# Altium schematic symbol library QUAN.SchLib: 229 symbols (part 2 of 2)
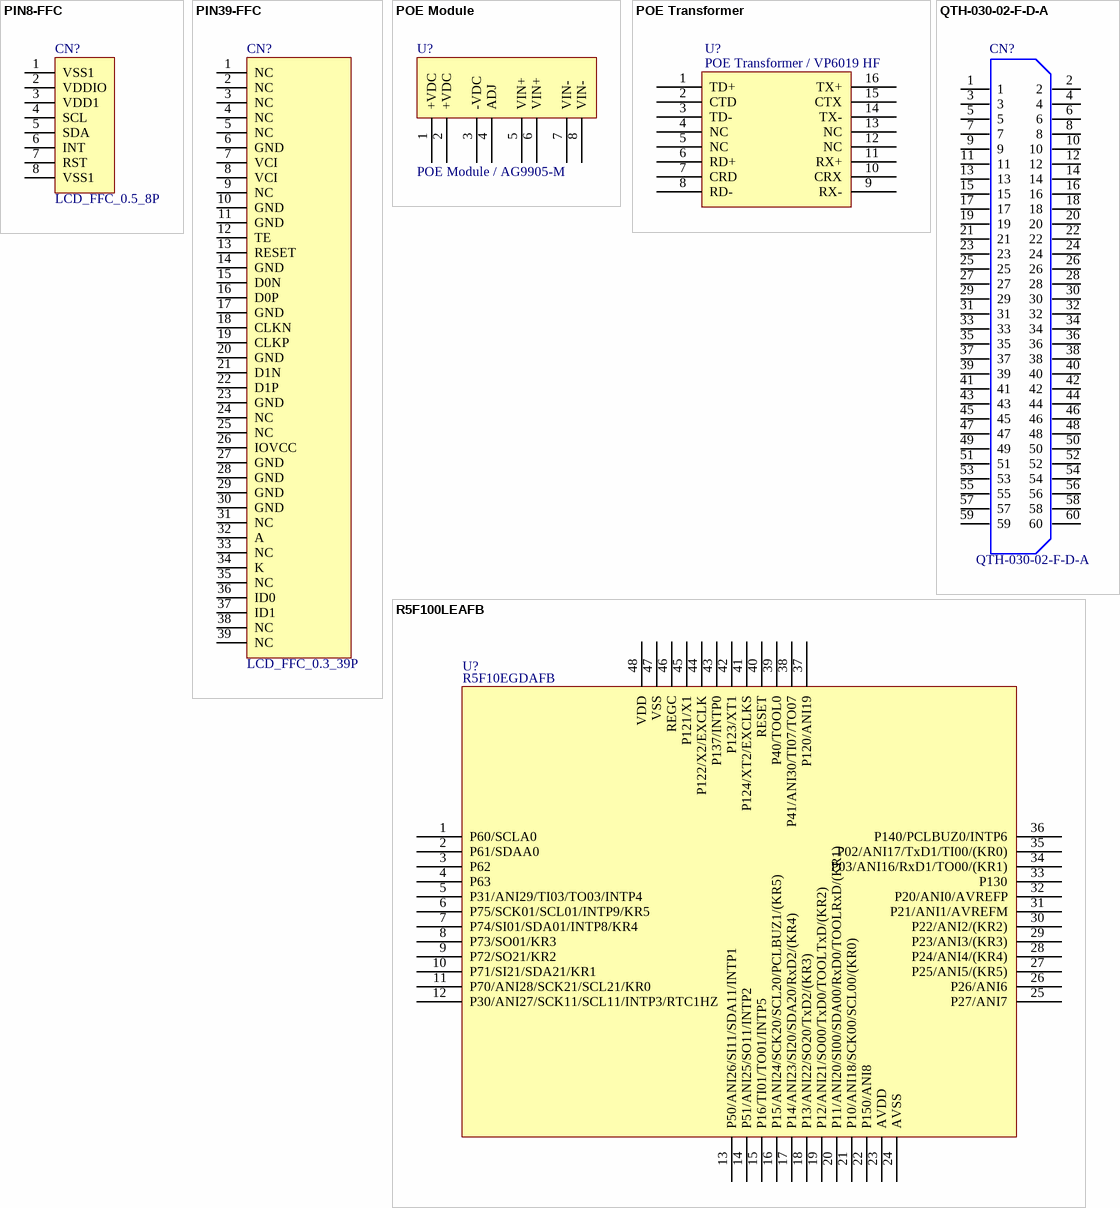
[diagram p10: symbols PIN8-FFC to R5F100LEAFB]

## R5F100LEAFB
designator U?, comment R5F10EGDAFB
footprint LQFP48_7X7_0.5mm
pins: 1 P60/SCLA0, 2 P61/SDAA0, 3 P62, 4 P63, 5 P31/ANI29/TI03/TO03/INTP4, 6 P75/SCK01/SCL01/INTP9/KR5, 7 P74/SI01/SDA01/INTP8/KR4, 8 P73/SO01/KR3, 9 P72/SO21/KR2, 10 P71/SI21/SDA21/KR1, 11 P70/ANI28/SCK21/SCL21/KR0, 12 P30/ANI27/SCK11/SCL11/INTP3/RTC1HZ, 13 P50/ANI26/SI11/SDA11/INTP1, 14 P51/ANI25/SO11/INTP2, 15 P16/TI01/TO01/INTP5, 16 P15/ANI24/SCK20/SCL20/PCLBUZ1/(KR5), 17 P14/ANI23/SI20/SDA20/RxD2/(KR4), 18 P13/ANI22/SO20/TxD2/(KR3), 19 P12/ANI21/SO00/TxD0/TOOLTxD/(KR2), 20 P11/ANI20/SI00/SDA00/RxD0/TOOLRxD/(KR1), 21 P10/ANI18/SCK00/SCL00/(KR0), 22 P150/ANI8, 23 AVDD, 24 AVSS, 25 P27/ANI7, 26 P26/ANI6, 27 P25/ANI5/(KR5), 28 P24/ANI4/(KR4), 29 P23/ANI3/(KR3), 30 P22/ANI2/(KR2), 31 P21/ANI1/AVREFM, 32 P20/ANI0/AVREFP, 33 P130, 34 P03/ANI16/RxD1/TO00/(KR1), 35 P02/ANI17/TxD1/TI00/(KR0), 36 P140/PCLBUZ0/INTP6, 37 P120/ANI19, 38 P41/ANI30/TI07/TO07, 39 P40/TOOL0, 40 RESET, 41 P124/XT2/EXCLKS, 42 P123/XT1, 43 P137/INTP0, 44 P122/X2/EXCLK, 45 P121/X1, 46 REGC, 47 VSS, 48 VDD

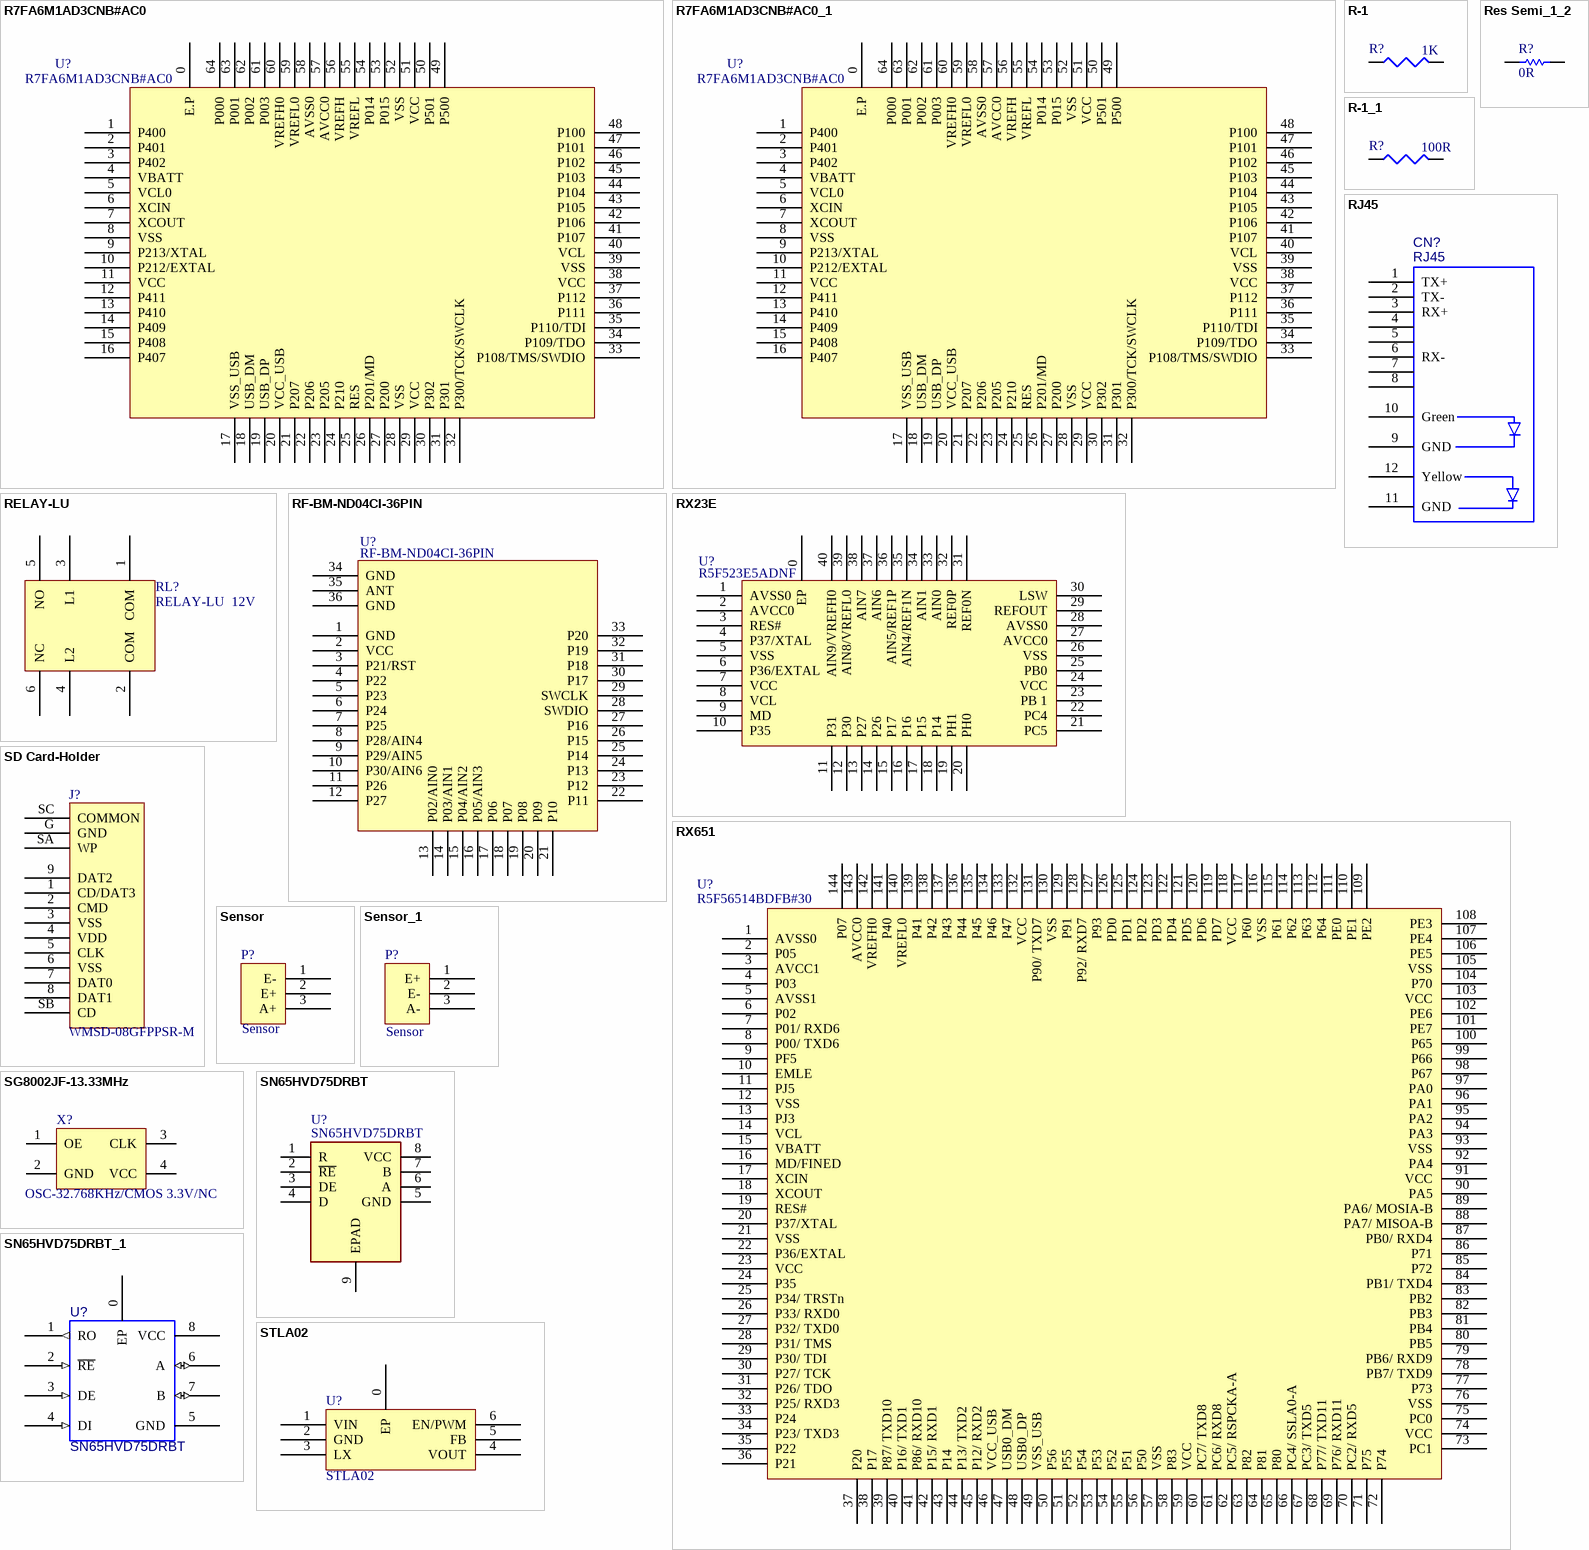
[diagram p6: symbols R7FA6M1AD3CNB#AC0 to STLA02]

## R7FA6M1AD3CNB#AC0
designator U?
MCU; Value: R7FA6M1AD3CNB#AC0
footprint IC128
footprint QFP100
footprint QFN64-0.4mm-8X8
pins: 0 E.P, 1 P400, 2 P401, 3 P402, 4 VBATT, 5 VCL0, 6 XCIN, 7 XCOUT, 8 VSS, 9 P213/XTAL, 10 P212/EXTAL, 11 VCC, 12 P411, 13 P410, 14 P409, 15 P408, 16 P407, 17 VSS_USB, 18 USB_DM, 19 USB_DP, 20 VCC_USB, 21 P207, 22 P206, 23 P205, 24 P210, 25 RES, 26 P201/MD, 27 P200, 28 VSS, 29 VCC, 30 P302, 31 P301, 32 P300/TCK/SWCLK, 33 P108/TMS/SWDIO, 34 P109/TDO, 35 P110/TDI, 36 P111, 37 P112, 38 VCC, 39 VSS, 40 VCL, 41 P107, 42 P106, 43 P105, 44 P104, 45 P103, 46 P102, 47 P101, 48 P100, 49 P500, 50 P501, 51 VCC, 52 VSS, 53 P015, 54 P014, 55 VREFL, 56 VREFH, 57 AVCC0, 58 AVSS0, 59 VREFL0, 60 VREFH0, 61 P003, 62 P002, 63 P001, 64 P000
2 alternate drawings of the same symbol

## R7FA6M1AD3CNB#AC0_1
designator U?, comment R7FA6M1AD3CNB#AC0
MCU; Value: R7FA6M1AD3CNB#AC0
footprint IC128
footprint QFP100
footprint QFN64-0.4mm-8X8
pins: 0 E.P, 1 P400, 2 P401, 3 P402, 4 VBATT, 5 VCL0, 6 XCIN, 7 XCOUT, 8 VSS, 9 P213/XTAL, 10 P212/EXTAL, 11 VCC, 12 P411, 13 P410, 14 P409, 15 P408, 16 P407, 17 VSS_USB, 18 USB_DM, 19 USB_DP, 20 VCC_USB, 21 P207, 22 P206, 23 P205, 24 P210, 25 RES, 26 P201/MD, 27 P200, 28 VSS, 29 VCC, 30 P302, 31 P301, 32 P300/TCK/SWCLK, 33 P108/TMS/SWDIO, 34 P109/TDO, 35 P110/TDI, 36 P111, 37 P112, 38 VCC, 39 VSS, 40 VCL, 41 P107, 42 P106, 43 P105, 44 P104, 45 P103, 46 P102, 47 P101, 48 P100, 49 P500, 50 P501, 51 VCC, 52 VSS, 53 P015, 54 P014, 55 VREFL, 56 VREFH, 57 AVCC0, 58 AVSS0, 59 VREFL0, 60 VREFH0, 61 P003, 62 P002, 63 P001, 64 P000
2 alternate drawings of the same symbol

## R-1
designator R?, comment 1K
footprint 0603
footprint 0805
footprint 1206
footprint DLR
footprint 0603
pins: 1, 2
2 alternate drawings of the same symbol

## R-1_1
designator R?, comment 100R
footprint 0402
footprint 0805
footprint 1206
footprint DLR
pins: 1, 2
2 alternate drawings of the same symbol

## RELAY-LU
designator RL?, comment RELAY-LU  12V
value: *
footprint RELAY-LU
pins: 1 COM, 2 COM, 3 L1, 4 L2, 5 NO, 6 NC
2 alternate drawings of the same symbol

## Res Semi_1_2
designator R?, comment 0R
Semiconductor Resistor; Published: 8-Jun-2000; LatestRevisionDate: 17-Jul-2002; LatestRevisionNote: Re-released for DXP Platform.; PackageReference: AXIAL-0.5; Publisher: Altium Limited; Value: 0R
footprint AXIAL-0.5
footprint 1005[0402]
footprint 1608[0603]
footprint 2012[0805]
footprint 0603
footprint 0402
pins: 1, 2
2 alternate drawings of the same symbol

## RF-BM-ND04CI-36PIN
designator U?
footprint RF-BM-ND04CI-36PIN
pins: 1 GND, 2 VCC, 3 P21/RST, 4 P22, 5 P23, 6 P24, 7 P25, 8 P28/AIN4, 9 P29/AIN5, 10 P30/AIN6, 11 P26, 12 P27, 13 P02/AIN0, 14 P03/AIN1, 15 P04/AIN2, 16 P05/AIN3, 17 P06, 18 P07, 19 P08, 20 P09, 21 P10, 22 P11, 23 P12, 24 P13, 25 P14, 26 P15, 27 P16, 28 SWDIO, 29 SWCLK, 30 P17, 31 P18, 32 P19, 33 P20, 34 GND, 35 ANT, 36 GND

## RJ45
designator CN?
Right: 162; Bottom: 258
footprint WRJ45-ROUT-SMT-T
pins: 1 TX+, 2 TX-, 3 RX+, 4, 5, 6 RX-, 7, 8, 9 GND, 10 Green, 11 GND, 12 Yellow
2 alternate drawings of the same symbol

## RX23E
designator U?, comment R5F523E5ADNF
footprint IC128
footprint QFP100
footprint QFN-40-0.5MM-6X6
pins: 0 EP, 1 AVSS0, 2 AVCC0, 3 RES#, 4 P37/XTAL, 5 VSS, 6 P36/EXTAL, 7 VCC, 8 VCL, 9 MD, 10 P35, 11 P31, 12 P30, 13 P27, 14 P26, 15 P17, 16 P16, 17 P15, 18 P14, 19 PH1, 20 PH0, 21 PC5, 22 PC4, 23 PB 1, 24 VCC, 25 PB0, 26 VSS, 27 AVCC0, 28 AVSS0, 29 REFOUT, 30 LSW, 31 REF0N, 32 REF0P, 33 AIN0, 34 AIN1, 35 AIN4/REF1N, 36 AIN5/REF1P, 37 AIN6, 38 AIN7, 39 AIN8/VREFL0, 40 AIN9/VREFH0
2 alternate drawings of the same symbol

## RX651
designator U?, comment R5F56514BDFB#30
footprint LQFP144-20x20-0.5mm
pins: 1 AVSS0, 2 P05, 3 AVCC1, 4 P03, 5 AVSS1, 6 P02, 7 P01/ RXD6, 8 P00/ TXD6, 9 PF5, 10 EMLE, 11 PJ5, 12 VSS, 13 PJ3, 14 VCL, 15 VBATT, 16 MD/FINED, 17 XCIN, 18 XCOUT, 19 RES#, 20 P37/XTAL, 21 VSS, 22 P36/EXTAL, 23 VCC, 24 P35, 25 P34/ TRSTn, 26 P33/ RXD0, 27 P32/ TXD0, 28 P31/ TMS, 29 P30/ TDI, 30 P27/ TCK, 31 P26/ TDO, 32 P25/ RXD3, 33 P24, 34 P23/ TXD3, 35 P22, 36 P21, 37 P20, 38 P17, 39 P87/ TXD10, 40 P16/ TXD1, 41 P86/ RXD10, 42 P15/ RXD1, 43 P14, 44 P13/ TXD2, 45 P12/ RXD2, 46 VCC_USB, 47 USB0_DM, 48 USB0_DP, 49 VSS_USB, 50 P56, 51 P55, 52 P54, 53 P53, 54 P52, 55 P51, 56 P50, 57 VSS, 58 P83, 59 VCC, 60 PC7/ TXD8, 61 PC6/ RXD8, 62 PC5/ RSPCKA-A, 63 P82, 64 P81, 65 P80, 66 PC4/ SSLA0-A, 67 PC3/ TXD5, 68 P77/ TXD11, 69 P76/ RXD11, 70 PC2/ RXD5, 71 P75, 72 P74, 73 PC1, 74 VCC, 75 PC0, 76 VSS, 77 P73, 78 PB7/ TXD9, 79 PB6/ RXD9, 80 PB5, 81 PB4, 82 PB3, 83 PB2, 84 PB1/ TXD4, 85 P72, 86 P71, 87 PB0/ RXD4, 88 PA7/ MISOA-B, 89 PA6/ MOSIA-B, 90 PA5, 91 VCC, 92 PA4, 93 VSS, 94 PA3, 95 PA2, 96 PA1, 97 PA0, 98 P67, 99 P66, 100 P65, 101 PE7, 102 PE6, 103 VCC, 104 P70, 105 VSS, 106 PE5, 107 PE4, 108 PE3, 109 PE2, 110 PE1, 111 PE0, 112 P64, 113 P63, 114 P62, 115 P61, 116 VSS, 117 P60, 118 VCC, 119 PD7, 120 PD6, 121 PD5, 122 PD4, 123 PD3, 124 PD2, 125 PD1, 126 PD0, 127 P93, 128 P92/ RXD7, 129 P91, 130 VSS, 131 P90/ TXD7, 132 VCC, 133 P47, 134 P46, 135 P45, 136 P44, 137 P43, 138 P42, 139 P41, 140 VREFL0, 141 P40, 142 VREFH0, 143 AVCC0, 144 P07

## SD Card-Holder
designator J?, comment WMSD-08GFPPSR-M
footprint SD Holder-Big
pins: 1 CD/DAT3, 2 CMD, 3 VSS, 4 VDD, 5 CLK, 6 VSS, 7 DAT0, 8 DAT1, 9 DAT2, G GND, SA WP, SB CD, SC COMMON

## Sensor
designator P?
footprint 6PIN-200
footprint WHITEWAFER3-200L
pins: 1 E-, 2 E+, 3 A+
2 alternate drawings of the same symbol

## Sensor_1
designator P?, comment Sensor
footprint WHITEWAFER3-200L
pins: 1 E+, 2 E-, 3 A-
2 alternate drawings of the same symbol

## SG8002JF-13.33MHz
designator X?, comment OSC-32.768KHz/CMOS 3.3V/NC
footprint Osc-SMD-3.2X2.5--
pins: 1 OE, 2 GND, 3 CLK, 4 VCC

## SN65HVD75DRBT
designator U?
RS-485 Transceivers; Manufacturer_Name: Texas Instruments; Datasheet Link: http://www.ti.com/lit/ds/symlink/sn65hvd75.pdf; Height: 1mm; Manufacturer_Part_Number: SN65HVD75DRBT
footprint SON65P300X300X100-9N-D
pins: 1 R, 2 ~{RE}, 3 DE, 4 D, 5 GND, 6 A, 7 B, 8 VCC, 9 EPAD

## SN65HVD75DRBT_1
designator U?, comment SN65HVD75DRBT
footprint SOIC
footprint SON8_0-65P_3X3MM_1H
pins: 0 EP (power), 1 RO (out), 2 ~{RE} (in), 3 DE (in), 4 DI (in), 5 GND (power), 6 A (io), 7 B (io), 8 VCC (power)
2 alternate drawings of the same symbol

## STLA02
designator U?
Value: STLA02
footprint DFN-6P-2X2mm
pins: 0 EP, 1 VIN, 2 GND, 3 LX, 4 VOUT, 5 FB, 6 EN/PWM
2 alternate drawings of the same symbol

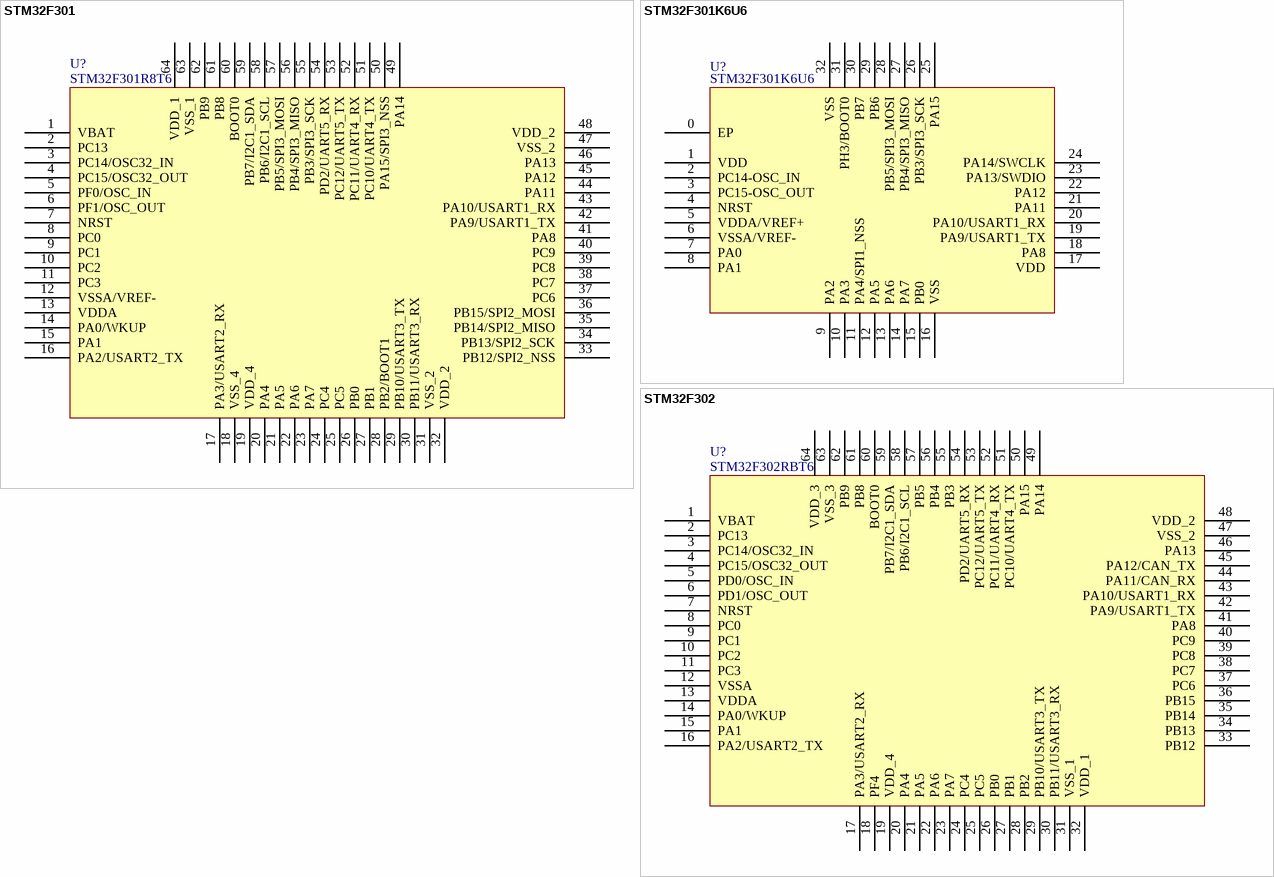
[diagram p7: symbols STM32F301 to STM32F302]

## STM32F301
designator U?, comment STM32F301R8T6
footprint IC128
footprint QFP100
footprint LQFP64-10x10_0.5mm
pins: 1 VBAT, 2 PC13, 3 PC14/OSC32_IN, 4 PC15/OSC32_OUT, 5 PF0/OSC_IN, 6 PF1/OSC_OUT, 7 NRST, 8 PC0, 9 PC1, 10 PC2, 11 PC3, 12 VSSA/VREF-, 13 VDDA, 14 PA0/WKUP, 15 PA1, 16 PA2/USART2_TX, 17 PA3/USART2_RX, 18 VSS_4, 19 VDD_4, 20 PA4, 21 PA5, 22 PA6, 23 PA7, 24 PC4, 25 PC5, 26 PB0, 27 PB1, 28 PB2/BOOT1, 29 PB10/USART3_TX, 30 PB11/USART3_RX, 31 VSS_2, 32 VDD_2, 33 PB12/SPI2_NSS, 34 PB13/SPI2_SCK, 35 PB14/SPI2_MISO, 36 PB15/SPI2_MOSI, 37 PC6, 38 PC7, 39 PC8, 40 PC9, 41 PA8, 42 PA9/USART1_TX, 43 PA10/USART1_RX, 44 PA11, 45 PA12, 46 PA13, 47 VSS_2, 48 VDD_2, 49 PA14, 50 PA15/SPI3_NSS, 51 PC10/UART4_TX, 52 PC11/UART4_RX, 53 PC12/UART5_TX, 54 PD2/UART5_RX, 55 PB3/SPI3_SCK, 56 PB4/SPI3_MISO, 57 PB5/SPI3_MOSI, 58 PB6/I2C1_SCL, 59 PB7/I2C1_SDA, 60 BOOT0, 61 PB8, 62 PB9, 63 VSS_1, 64 VDD_1
2 alternate drawings of the same symbol

## STM32F301K6U6
designator U?
footprint QFN-32-0.5MM-5X5_STM32L432-new
pins: 0 EP, 1 VDD, 2 PC14-OSC_IN, 3 PC15-OSC_OUT, 4 NRST, 5 VDDA/VREF+, 6 VSSA/VREF-, 7 PA0, 8 PA1, 9 PA2, 10 PA3, 11 PA4/SPI1_NSS, 12 PA5, 13 PA6, 14 PA7, 15 PB0, 16 VSS, 17 VDD, 18 PA8, 19 PA9/USART1_TX, 20 PA10/USART1_RX, 21 PA11, 22 PA12, 23 PA13/SWDIO, 24 PA14/SWCLK, 25 PA15, 26 PB3/SPI3_SCK, 27 PB4/SPI3_MISO, 28 PB5/SPI3_MOSI, 29 PB6, 30 PB7, 31 PH3/BOOT0, 32 VSS

## STM32F302
designator U?, comment STM32F302RBT6
footprint IC128
footprint QFP100
footprint LQFP64-10x10_0.5mm
pins: 1 VBAT, 2 PC13, 3 PC14/OSC32_IN, 4 PC15/OSC32_OUT, 5 PD0/OSC_IN, 6 PD1/OSC_OUT, 7 NRST, 8 PC0, 9 PC1, 10 PC2, 11 PC3, 12 VSSA, 13 VDDA, 14 PA0/WKUP, 15 PA1, 16 PA2/USART2_TX, 17 PA3/USART2_RX, 18 PF4, 19 VDD_4, 20 PA4, 21 PA5, 22 PA6, 23 PA7, 24 PC4, 25 PC5, 26 PB0, 27 PB1, 28 PB2, 29 PB10/USART3_TX, 30 PB11/USART3_RX, 31 VSS_1, 32 VDD_1, 33 PB12, 34 PB13, 35 PB14, 36 PB15, 37 PC6, 38 PC7, 39 PC8, 40 PC9, 41 PA8, 42 PA9/USART1_TX, 43 PA10/USART1_RX, 44 PA11/CAN_RX, 45 PA12/CAN_TX, 46 PA13, 47 VSS_2, 48 VDD_2, 49 PA14, 50 PA15, 51 PC10/UART4_TX, 52 PC11/UART4_RX, 53 PC12/UART5_TX, 54 PD2/UART5_RX, 55 PB3, 56 PB4, 57 PB5, 58 PB6/I2C1_SCL, 59 PB7/I2C1_SDA, 60 BOOT0, 61 PB8, 62 PB9, 63 VSS_3, 64 VDD_3
2 alternate drawings of the same symbol

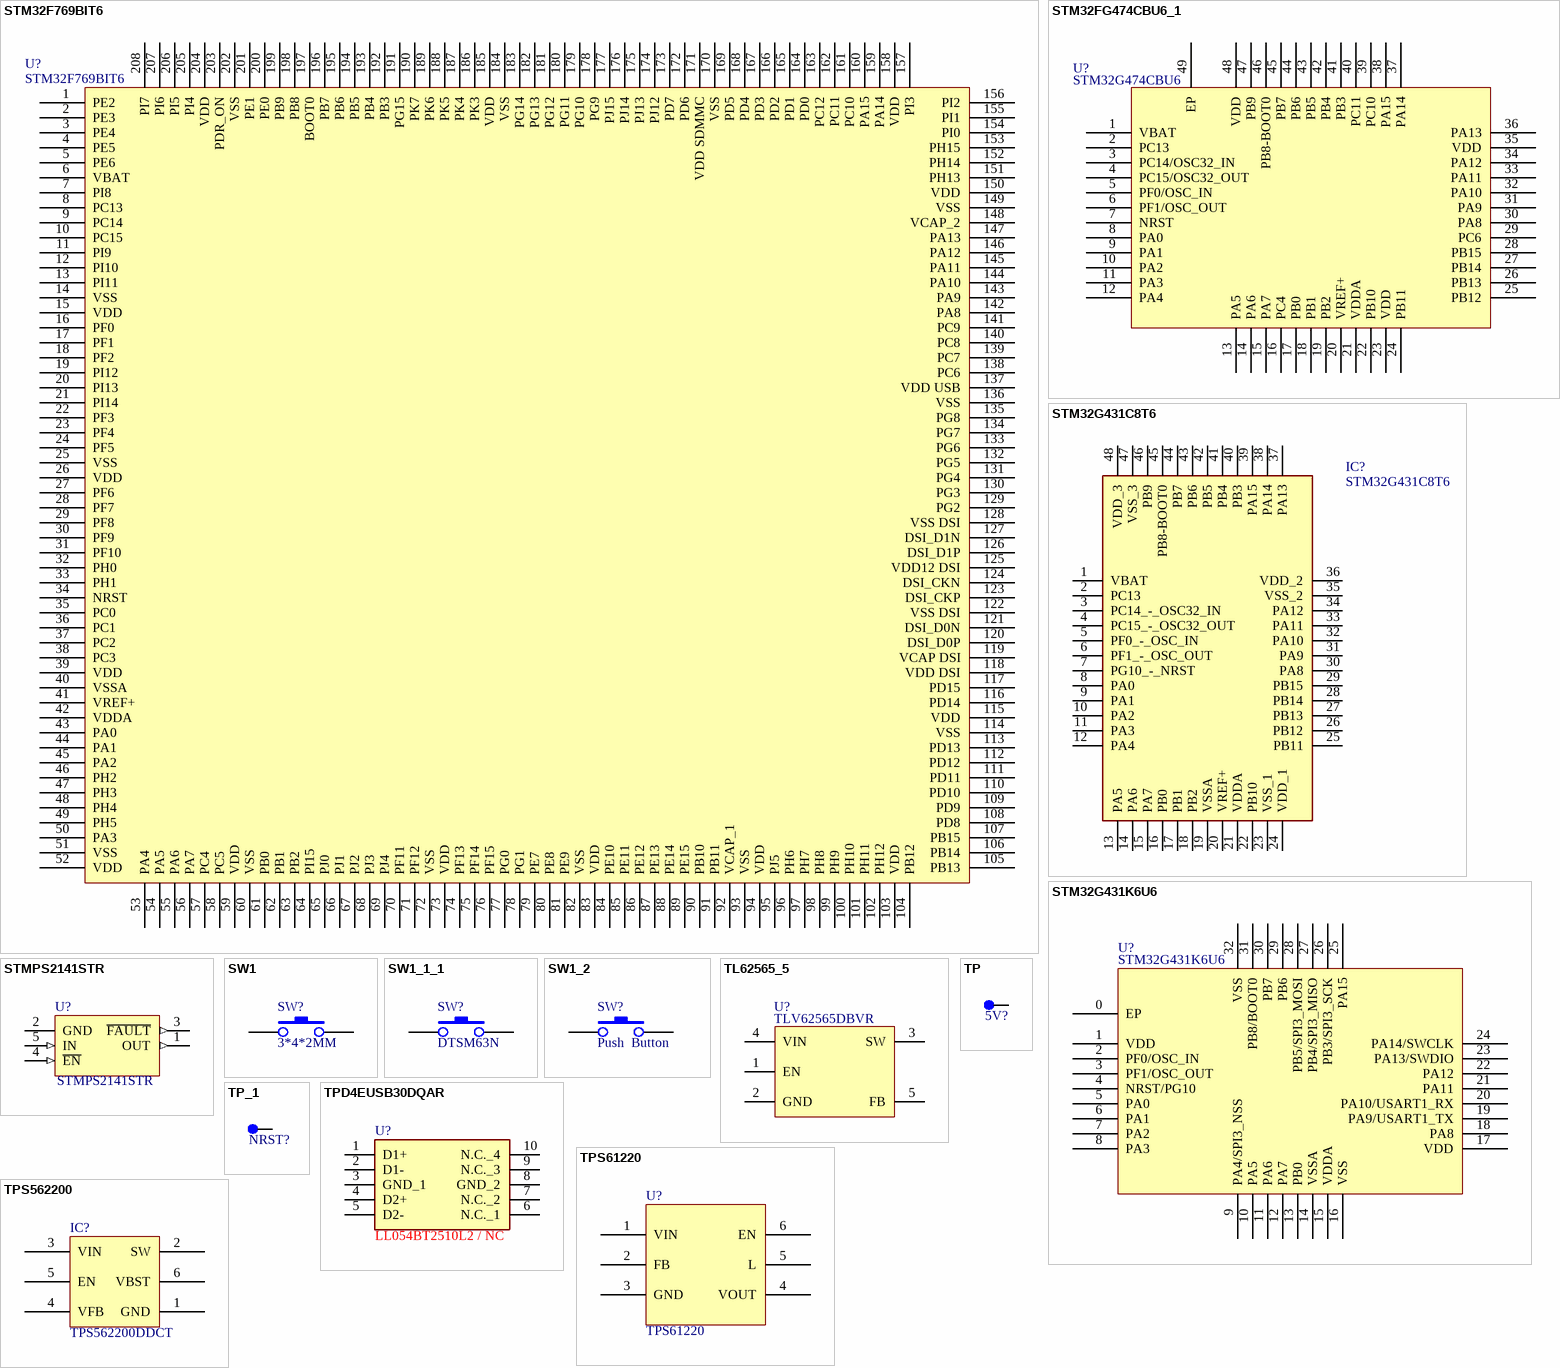
[diagram p8: symbols STM32F769BIT6 to TPS562200]

## STM32F769BIT6
designator U?
MCU; Value: STM32F769BIT6
footprint LQFP208-28MM-0.5mm
pins: 1 PE2, 2 PE3, 3 PE4, 4 PE5, 5 PE6, 6 VBAT, 7 PI8, 8 PC13, 9 PC14, 10 PC15, 11 PI9, 12 PI10, 13 PI11, 14 VSS, 15 VDD, 16 PF0, 17 PF1, 18 PF2, 19 PI12, 20 PI13, 21 PI14, 22 PF3, 23 PF4, 24 PF5, 25 VSS, 26 VDD, 27 PF6, 28 PF7, 29 PF8, 30 PF9, 31 PF10, 32 PH0, 33 PH1, 34 NRST, 35 PC0, 36 PC1, 37 PC2, 38 PC3, 39 VDD, 40 VSSA, 41 VREF+, 42 VDDA, 43 PA0, 44 PA1, 45 PA2, 46 PH2, 47 PH3, 48 PH4, 49 PH5, 50 PA3, 51 VSS, 52 VDD, 53 PA4, 54 PA5, 55 PA6, 56 PA7, 57 PC4, 58 PC5, 59 VDD, 60 VSS, 61 PB0, 62 PB1, 63 PB2, 64 PI15, 65 PJ0, 66 PJ1, 67 PJ2, 68 PJ3, 69 PJ4, 70 PF11, 71 PF12, 72 VSS, 73 VDD, 74 PF13, 75 PF14, 76 PF15, 77 PG0, 78 PG1, 79 PE7, 80 PE8, 81 PE9, 82 VSS, 83 VDD, 84 PE10, 85 PE11, 86 PE12, 87 PE13, 88 PE14, 89 PE15, 90 PB10, 91 PB11, 92 VCAP_1, 93 VSS, 94 VDD, 95 PJ5, 96 PH6, 97 PH7, 98 PH8, 99 PH9, 100 PH10, 101 PH11, 102 PH12, 103 VDD, 104 PB12, 105 PB13, 106 PB14, 107 PB15, 108 PD8, 109 PD9, 110 PD10, 111 PD11, 112 PD12, 113 PD13, 114 VSS, 115 VDD, 116 PD14, 117 PD15, 118 VDD DSI, 119 VCAP DSI, 120 DSI_D0P, 121 DSI_D0N, 122 VSS DSI, 123 DSI_CKP, 124 DSI_CKN, 125 VDD12 DSI, 126 DSI_D1P, 127 DSI_D1N, 128 VSS DSI, 129 PG2, 130 PG3, 131 PG4, 132 PG5, 133 PG6, 134 PG7, 135 PG8, 136 VSS, 137 VDD USB, 138 PC6, 139 PC7, 140 PC8, 141 PC9, 142 PA8, 143 PA9, 144 PA10, 145 PA11, 146 PA12, 147 PA13, 148 VCAP_2, 149 VSS, 150 VDD, 151 PH13, 152 PH14, 153 PH15, 154 PI0, 155 PI1, 156 PI2, 157 PI3, 158 VDD, 159 PA14, 160 PA15, 161 PC10, 162 PC11, 163 PC12, 164 PD0, 165 PD1, 166 PD2, 167 PD3, 168 PD4, 169 PD5, 170 VSS, 171 VDD SDMMC, 172 PD6, 173 PD7, 174 PJ12, 175 PJ13, 176 PJ14, 177 PJ15, 178 PG9, 179 PG10, 180 PG11, 181 PG12, 182 PG13, 183 PG14, 184 VSS, 185 VDD, 186 PK3, 187 PK4, 188 PK5, 189 PK6, 190 PK7, 191 PG15, 192 PB3, 193 PB4, 194 PB5, 195 PB6, 196 PB7, 197 BOOT0, 198 PB8, 199 PB9, 200 PE0, 201 PE1, 202 VSS, 203 PDR_ON, 204 VDD, 205 PI4, 206 PI5, 207 PI6, 208 PI7

## STM32FG474CBU6_1
designator U?, comment STM32G474CBU6
MCU; Value: STM32G474CBU6
footprint IC128
footprint QFP100
footprint UFQFPN-48-0.5mm-7x7
pins: 1 VBAT, 2 PC13, 3 PC14/OSC32_IN, 4 PC15/OSC32_OUT, 5 PF0/OSC_IN, 6 PF1/OSC_OUT, 7 NRST, 8 PA0, 9 PA1, 10 PA2, 11 PA3, 12 PA4, 13 PA5, 14 PA6, 15 PA7, 16 PC4, 17 PB0, 18 PB1, 19 PB2, 20 VREF+, 21 VDDA, 22 PB10, 23 VDD, 24 PB11, 25 PB12, 26 PB13, 27 PB14, 28 PB15, 29 PC6, 30 PA8, 31 PA9, 32 PA10, 33 PA11, 34 PA12, 35 VDD, 36 PA13, 37 PA14, 38 PA15, 39 PC10, 40 PC11, 41 PB3, 42 PB4, 43 PB5, 44 PB6, 45 PB7, 46 PB8-BOOT0, 47 PB9, 48 VDD, 49 EP
2 alternate drawings of the same symbol

## STM32G431C8T6
designator IC?
Integrated Circuit; Manufacturer_Name: STMicroelectronics; Datasheet Link: https://www.arrow.com/en/products/stm32g431c8t6/stmicroelectronics; Height: 1.6mm; Manufacturer_Part_Number: STM32G431C8T6
footprint QFP50P900X900X160-48N
pins: 1 VBAT, 2 PC13, 3 PC14_-_OSC32_IN, 4 PC15_-_OSC32_OUT, 5 PF0_-_OSC_IN, 6 PF1_-_OSC_OUT, 7 PG10_-_NRST, 8 PA0, 9 PA1, 10 PA2, 11 PA3, 12 PA4, 13 PA5, 14 PA6, 15 PA7, 16 PB0, 17 PB1, 18 PB2, 19 VSSA, 20 VREF+, 21 VDDA, 22 PB10, 23 VSS_1, 24 VDD_1, 25 PB11, 26 PB12, 27 PB13, 28 PB14, 29 PB15, 30 PA8, 31 PA9, 32 PA10, 33 PA11, 34 PA12, 35 VSS_2, 36 VDD_2, 37 PA13, 38 PA14, 39 PA15, 40 PB3, 41 PB4, 42 PB5, 43 PB6, 44 PB7, 45 PB8-BOOT0, 46 PB9, 47 VSS_3, 48 VDD_3

## STM32G431K6U6
designator U?
MCU
footprint QFN50P500X500X60-33N
pins: 0 EP, 1 VDD, 2 PF0/OSC_IN, 3 PF1/OSC_OUT, 4 NRST/PG10, 5 PA0, 6 PA1, 7 PA2, 8 PA3, 9 PA4/SPI3_NSS, 10 PA5, 11 PA6, 12 PA7, 13 PB0, 14 VSSA, 15 VDDA, 16 VSS, 17 VDD, 18 PA8, 19 PA9/USART1_TX, 20 PA10/USART1_RX, 21 PA11, 22 PA12, 23 PA13/SWDIO, 24 PA14/SWCLK, 25 PA15, 26 PB3/SPI3_SCK, 27 PB4/SPI3_MISO, 28 PB5/SPI3_MOSI, 29 PB6, 30 PB7, 31 PB8/BOOT0, 32 VSS

## STMPS2141STR
designator U?
Text Field1: 20; Text Field2: 10
footprint SOT-23-5-0.95MM
pins: 1 OUT (out), 2 GND, 3 ~{FAULT} (out), 4 ~{EN} (in), 5 IN (in)

## SW1
designator SW?, comment 3*4*2MM
footprint SWA
footprint IDSW
footprint IDSW2
footprint IDSW-S
footprint SW-AT-1102VT
footprint button-2pin
footprint Button-2pin-3*4*2MM
footprint Button_2pin-3*4*2MM
pins: 1, 2
2 alternate drawings of the same symbol

## SW1_1_1
designator SW?, comment DTSM63N
footprint SWA
footprint IDSW
footprint IDSW2
footprint IDSW-S
footprint SW-AT-1102VT1-new
pins: 0 GND hidden to GND, 1, 2
2 alternate drawings of the same symbol

## SW1_2
designator SW?, comment Push  Button
Push Button; Value: Switch-SMD-6x6mm
footprint SWA
footprint IDSW
footprint IDSW2
footprint IDSW-S
footprint Button_2pin-3*4*2MM
pins: 1, 2
2 alternate drawings of the same symbol

## TL62565_5
designator U?, comment TLV62565DBVR
Value: TLV62565DBVR
footprint SOT-23-5-0.95MM
pins: 1 EN, 2 GND, 3 SW, 4 VIN, 5 FB

## TP
designator 5V?  (value not drawn)
Test point; Value: 3V3
footprint TESTPAD-0.6MM
footprint TESTPAD-0.6MM-1
footprint TESTPAD-0.4MM
footprint TESTPAD-0.4MM-1
footprint MODULE-PAD-0.65X0.4
footprint TESTPAD-1X0.6MM-1
footprint TESTPAD-0.6X0.4MM-1
pins: 1
2 alternate drawings of the same symbol

## TP_1
designator NRST?, comment TP  (value not drawn)
Test point; Value: NRST
footprint TESTPAD-0.6MM
footprint TESTPAD-0.6MM-1
footprint TESTPAD-0.4MM
footprint TESTPAD-0.4MM-1
footprint MODULE-PAD-0.65X0.4
footprint TESTPAD-1X0.6MM-1
footprint TESTPAD-0.6X0.4MM-1
pins: 1
2 alternate drawings of the same symbol

## TPD4EUSB30DQAR
designator U?, comment LL054BT2510L2 / NC
Integrated Circuit
footprint USON10-ESD
pins: 1 D1+, 2 D1-, 3 GND_1, 4 D2+, 5 D2-, 6 N.C._1, 7 N.C._2, 8 GND_2, 9 N.C._3, 10 N.C._4

## TPS61220
designator U?
footprint SOT-23-6
footprint SOT-23-6-0.65MM-1
pins: 1 VIN, 2 FB, 3 GND, 4 VOUT, 5 L, 6 EN
2 alternate drawings of the same symbol

## TPS562200
designator IC?, comment TPS562200DDCT
footprint SOT-23-6-0.95mm
pins: 1 GND, 2 SW, 3 VIN, 4 VFB, 5 EN, 6 VBST

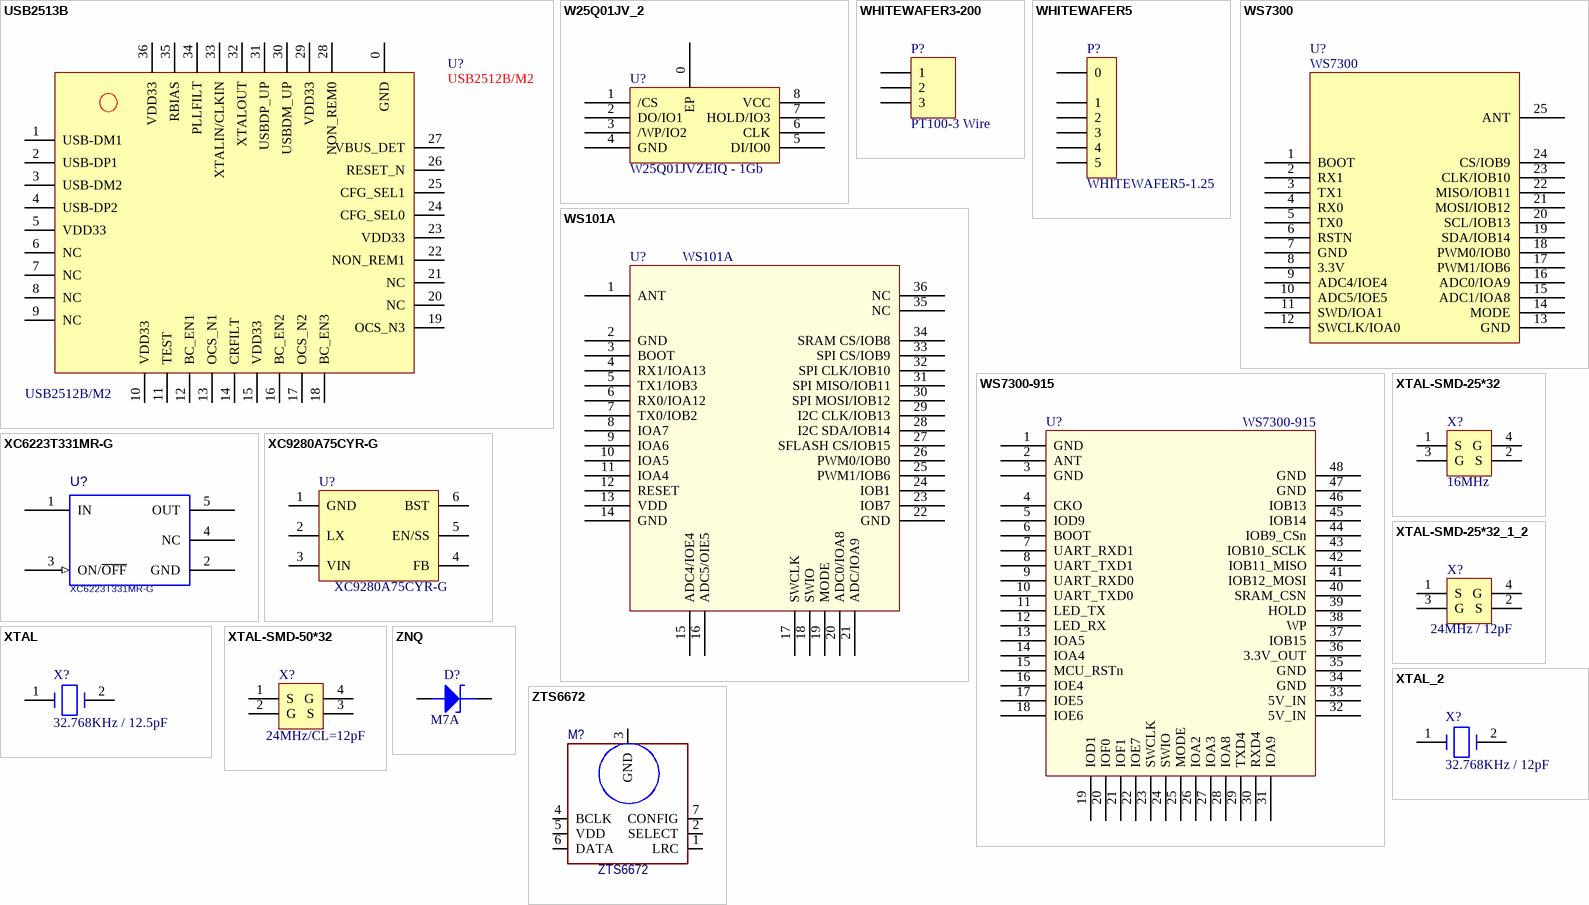
[diagram p9: symbols USB2513B to ZTS6672]

## USB2513B
designator U?, comment USB2512B/M2
USB Hub; Value: USB2512B/M2
footprint QFN-36-0.5MM-6x6
pins: 0 GND, 1 USB-DM1 "GND", 2 USB-DP1 "SCL", 3 USB-DM2 "SDA", 4 USB-DP2 "NC", 5 VDD33 "P1_5", 6 NC "P1_4", 7 NC "P1_3", 8 NC "P1_2", 9 NC "P1_1", 10 VDD33 "DVDD2", 11 TEST, 12 BC_EN1 "P0_7", 13 OCS_N1 "P0_6", 14 CRFILT "P0_5", 15 VDD33 "P0_4", 16 BC_EN2 "P0_3", 17 OCS_N2 "P0_2", 18 BC_EN3 "P0_1", 19 OCS_N3 "AVDD5", 20 NC "XOSC_Q1", 21 NC "AVDD5", 22 NON_REM1 "XOSC_Q1", 23 VDD33 "XOSC_Q2", 24 CFG_SEL0 "AVDD3", 25 CFG_SEL1 "RF_P", 26 RESET_N "RF_N", 27 VBUS_DET "AVDD2", 28 NON_REM0 "AVDD1", 29 VDD33 "AVDD4", 30 USBDM_UP "R_BIAS", 31 USBDP_UP "AVDD6", 32 XTALOUT "P2_4 / OSC32K_Q1", 33 XTALIN/CLKIN "P2_3 / OSC32K_Q2", 34 PLLFILT "P2_2", 35 RBIAS "P2_1", 36 VDD33 "P2_0"

## W25Q01JV_2
designator U?, comment value W25Q01JVZEIQ - 1Gb  (hidden comment: W25Q01JV- 1Gb)
footprint WSON  8X6mm
pins: 0 EP, 1 /CS, 2 DO/IO1, 3 /WP/IO2, 4 GND, 5 DI/IO0, 6 CLK, 7 HOLD/IO3, 8 VCC
2 alternate drawings of the same symbol

## WHITEWAFER3-200
designator P?, comment PT100-3 Wire
WHITEWAFER3-200; LatestRevisionDate: 17-Jul-2002; LatestRevisionNote: Re-released for DXP Platform.; Publisher: Altium Limited
footprint WHITEWAFER3-200
pins: 1, 2, 3

## WHITEWAFER5
designator P?, comment WHITEWAFER5-1.25
Value: WHITEWAFER5-1.25
footprint WHITEWAFER5-1.25-SMD-90
pins: 0, 1, 2, 3, 4, 5

## WS101A
designator U?
footprint WS101A (Vertexcom)
pins: 1 ANT, 2 GND, 3 BOOT, 4 RX1/IOA13, 5 TX1/IOB3, 6 RX0/IOA12, 7 TX0/IOB2, 8 IOA7, 9 IOA6, 10 IOA5, 11 IOA4, 12 RESET, 13 VDD, 14 GND, 15 ADC4/IOE4, 16 ADC5/OIE5, 17 SWCLK, 18 SWIO, 19 MODE, 20 ADC0/IOA8, 21 ADC/IOA9, 22 GND, 23 IOB7, 24 IOB1, 25 PWM1/IOB6, 26 PWM0/IOB0, 27 SFLASH CS/IOB15, 28 I2C SDA/IOB14, 29 I2C CLK/IOB13, 30 SPI MOSI/IOB12, 31 SPI MISO/IOB11, 32 SPI CLK/IOB10, 33 SPI CS/IOB9, 34 SRAM CS/IOB8, 35 NC, 36 NC

## WS7300
designator U?
Wisun Module
footprint WS7300-Wisun
pins: 1 BOOT, 2 RX1, 3 TX1, 4 RX0, 5 TX0, 6 RSTN, 7 GND, 8 3.3V, 9 ADC4/IOE4, 10 ADC5/IOE5, 11 SWD/IOA1, 12 SWCLK/IOA0, 13 GND, 14 MODE, 15 ADC1/IOA8, 16 ADC0/IOA9, 17 PWM1/IOB6, 18 PWM0/IOB0, 19 SDA/IOB14, 20 SCL/IOB13, 21 MOSI/IOB12, 22 MISO/IOB11, 23 CLK/IOB10, 24 CS/IOB9, 25 ANT
2 alternate drawings of the same symbol

## WS7300-915
designator U?
footprint WS7300-915 (Footprint not found)
footprint Model Name (Footprint not found)
footprint WiSun-Lierda
pins: 1 GND, 2 ANT, 3 GND, 4 CKO, 5 IOD9, 6 BOOT, 7 UART_RXD1, 8 UART_TXD1, 9 UART_RXD0, 10 UART_TXD0, 11 LED_TX, 12 LED_RX, 13 IOA5, 14 IOA4, 15 MCU_RSTn, 16 IOE4, 17 IOE5, 18 IOE6, 19 IOD1, 20 IOF0, 21 IOF1, 22 IOE7, 23 SWCLK, 24 SWIO, 25 MODE, 26 IOA2, 27 IOA3, 28 IOA8, 29 TXD4, 30 RXD4, 31 IOA9, 32 5V_IN, 33 5V_IN, 34 GND, 35 GND, 36 3.3V_OUT, 37 IOB15, 38 WP, 39 HOLD, 40 SRAM_CSN, 41 IOB12_MOSI, 42 IOB11_MISO, 43 IOB10_SCLK, 44 IOB9_CSn, 45 IOB14, 46 IOB13, 47 GND, 48 GND

## XC6223T331MR-G
designator U?
footprint sot23-5
footprint SOT-23-5-0.95MM
pins: 1 IN, 2 GND, 3 ON/~{OFF} (in), 4 NC, 5 OUT
2 alternate drawings of the same symbol

## XC9280A75CYR-G
designator U?
BuckDC/DC Converters; Value: XC9280A75CYR-G
footprint SOT-23-6-0.95mm
pins: 1 GND, 2 LX, 3 VIN, 4 FB, 5 EN/SS, 6 BST

## XTAL
designator X?, comment 32.768KHz / 12.5pF
Value: D21-032768-2DRD40
footprint XTAL
footprint FX3
footprint 76.8K
footprint 76.8K1
footprint XTAL-SMD-20*12
pins: 1, 2
2 alternate drawings of the same symbol

## XTAL-SMD-25*32
designator X?, comment 16MHz
footprint XTAL-2_0X1_6-N1
footprint XTAL-SMD-20X16
pins: 1 S, 2 S, 3 G, 4 G
2 alternate drawings of the same symbol

## XTAL-SMD-25*32_1_2
designator X?, comment 24MHz / 12pF
Cystal; Value: 24MHz / 12pF
footprint XTAL-SMD-25*32
pins: 1 S, 2 S, 3 G, 4 G
2 alternate drawings of the same symbol

## XTAL-SMD-50*32
designator X?, comment 24MHz/CL=12pF
footprint XTAL-SMD-25*32 - NEW
pins: 1 S, 2 G, 3 S, 4 G
2 alternate drawings of the same symbol

## XTAL_2
designator X?, comment 32.768KHz / 12pF
Value: 32.768KHz / 12pF
footprint XTAL
footprint FX3
footprint 76.8K
footprint 76.8K1
footprint XTAL-SMD-32*15
pins: 1, 2
2 alternate drawings of the same symbol

## ZNQ
designator D?, comment M7A
Zener Diode
footprint D1
footprint DIODE-SMA
pins: 1, 2
2 alternate drawings of the same symbol

## ZTS6672
designator M?
footprint ZTS6672-Mic
pins: 1 LRC, 2 SELECT, 3 GND, 4 BCLK, 5 VDD, 6 DATA, 7 CONFIG